# EAGLE library part MOD_CYBLE014008-00 (library akita)
Cypress CYBLE014008-000
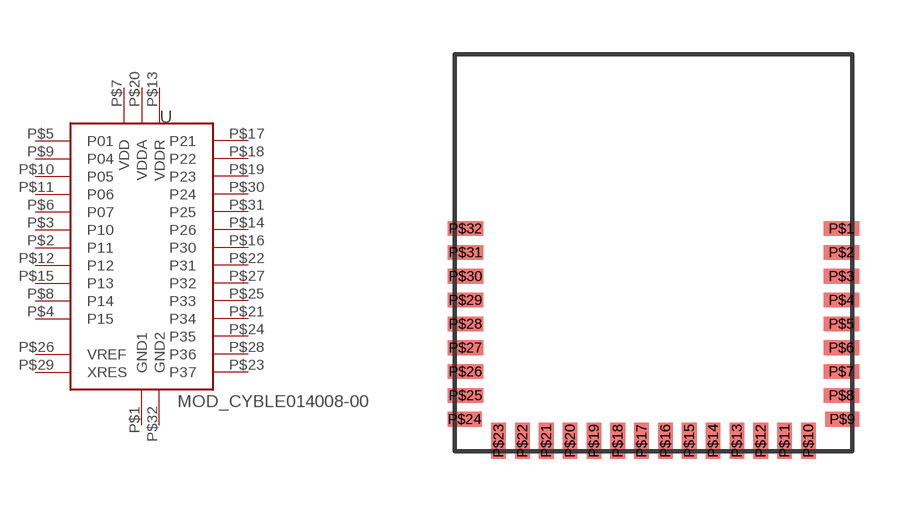
[diagram p146: symbol with the pads of MOD_CYBLE014008-00; footprint MOD_CYBLE014008-00]

Designator prefix U

## MOD_CYBLE014008-00  [MOD_CYBLE014008-00]
P$1  GND1
P$2  P11
P$3  P10
P$4  P15
P$5  P01
P$6  P07
P$7  VDD
P$8  P14
P$9  P04
P$10  P05
P$11  P06
P$12  P12
P$13  VDDR
P$14  P26
P$15  P13
P$16  P30
P$17  P21
P$18  P22
P$19  P23
P$20  VDDA
P$21  P34
P$22  P31
P$23  P37
P$24  P35
P$25  P33
P$26  VREF
P$27  P32
P$28  P36
P$29  XRES
P$30  P24
P$31  P25
P$32  GND2

## Footprint MOD_CYBLE014008-00 (pad centres in mm)
Cypress CYBLE-014008-00
smd 0.99 x 0.41: P$1 5.205,0.67; P$2 5.205,0.01; P$3 5.205,-0.65; P$4 5.205,-1.31; P$5 5.205,-1.97; P$6 5.205,-2.63; P$7 5.205,-3.29; P$8 5.205,-3.95; P$25 -5.205,-3.95; P$26 -5.205,-3.29; P$27 -5.205,-2.63; P$28 -5.205,-1.97; P$29 -5.205,-1.31; P$30 -5.205,-0.65; P$31 -5.205,0.01; P$32 -5.205,0.67
smd 0.94 x 0.41: P$9 5.23,-4.61; P$24 -5.23,-4.61
smd 0.41 x 0.99: P$10 4.29,-5.205; P$11 3.63,-5.205; P$12 2.97,-5.205; P$13 2.31,-5.205; P$14 1.65,-5.205; P$15 0.99,-5.205; P$16 0.33,-5.205; P$17 -0.33,-5.205; P$18 -0.99,-5.205; P$19 -1.65,-5.205; P$20 -2.31,-5.205; P$21 -2.97,-5.205; P$22 -3.63,-5.205; P$23 -4.29,-5.205